# Altium schematic symbol library CON2.SchLib: 1 symbol
Pins are listed as number, name and electrical type; pins without a type are passive.

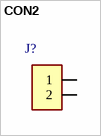
[diagram p0: symbol CON2]

## CON2
designator J?, comment 0734151061  (value not drawn)
ID: 0734151061; PDF: http://www.molex.com/pdm_docs/sd/734151061_sd.pdf; PRICE: 5.45000; BUY_LINK: http://www.digikey.com/product-search/en?keywords=wm9351CT
footprint 0734151061
pins: 1, 2